# Altium schematic symbol library TPS562200DDCR.SchLib: 1 symbol
Pins are listed as number, name and electrical type; pins without a type are passive.

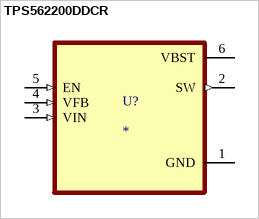
[diagram p0: symbol TPS562200DDCR]

## TPS562200DDCR
designator U?
MP: TPS562200DDCR; MF: {'manufacturer': u'Texas Instruments'}; Availability: Unavailable; Package: None; Price: None; Value: *
footprint SOT95P280X110-6N
pins: 1 GND (power), 2 SW (out), 3 VIN (in), 4 VFB (in), 5 EN (in), 6 VBST (power)